# EAGLE library part Q48SC12050NRDH (library CONN, Bricks - Q48SC12050NRDH)
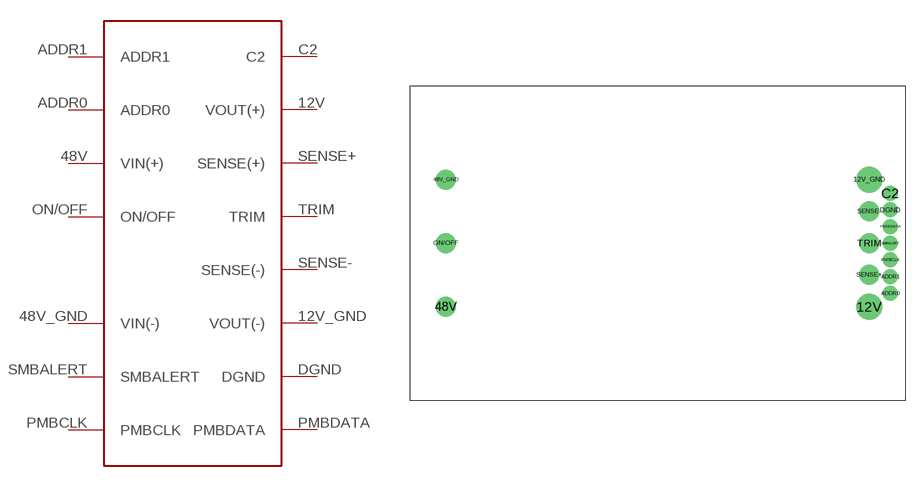
[diagram p0: symbol with the pads of Q48SC12050NRDH; footprint Q48SC12050NRDH]

Designator prefix -

## Q48SC12050NRDH  [Q48SC12050NRDH]
12V  VOUT(+)
12V_GND  VOUT(-)
48V  VIN(+)
48V_GND  VIN(-)
ADDR0  ADDR0
ADDR1  ADDR1
C2  C2
DGND  DGND
ON/OFF  ON/OFF
PMBCLK  PMBCLK
PMBDATA  PMBDATA
SENSE+  SENSE(+)
SENSE-  SENSE(-)
SMBALERT  SMBALERT
TRIM  TRIM

## Footprint Q48SC12050NRDH (pad centres in mm)
drill 2.1: 12V 50.8,0; 12V_GND 50.8,15.24
drill 1.6: 48V 0,0; 48V_GND 0,15.24; ON/OFF 0,7.62; SENSE+ 50.8,3.81; SENSE- 50.8,11.43; TRIM 50.8,7.62
drill 1.2: ADDR0 53.34,1.62; ADDR1 53.34,3.62; C2 53.34,13.62; DGND 53.34,11.62; PMBCLK 53.34,5.62; PMBDATA 53.34,9.62; SMBALERT 53.34,7.62